# Altium schematic symbol library Schlib_buzzer.SchLib: 1 symbol
Pins are listed as number, name and electrical type; pins without a type are passive.

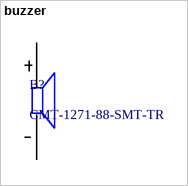
[diagram p0: symbol buzzer]

## buzzer
designator B?, comment CMT-1271-88-SMT-TR
88dB Passive (external drive) Electromagnetic Type 2.4kHz Buzzers ROHS; manufactor: CUI; ComponentLink1Description: snapeda link; ComponentLink1URL: https://www.snapeda.com/parts/CMT-1271-88-SMT-TR/CUI%20Devices/view-part/?ref=search&t=Buzzer%20smd; ComponentLink2Description: datasheet; ComponentLink2URL: https://www.snapeda.com/parts/CMT-1271-88-SMT-TR/CUI%20Devices/datasheet/; manufactor part number: CMT-1271-88-SMT-TR; supplier: LCSC; supplier part number: C3811771
footprint PCBComponent_1
pins: 1, 2